# Altium schematic symbol library Inductor.SchLib: 2 symbols
Pins are listed as number, name and electrical type; pins without a type are passive.

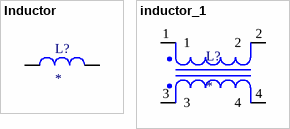
[diagram p0: symbols Inductor to inductor_1]

## Inductor
designator L?
Case/Package: *
footprint L0603 (0603 SMD Inductor)
pins: 1, 2

## inductor_1
designator L?
Common mode choke / cuon cam xuyen
footprint Double inductor (cuon cam xuyen doi)
pins: 1, 2, 3, 4